# EAGLE library part A4950 (library OfficineRobotiche)
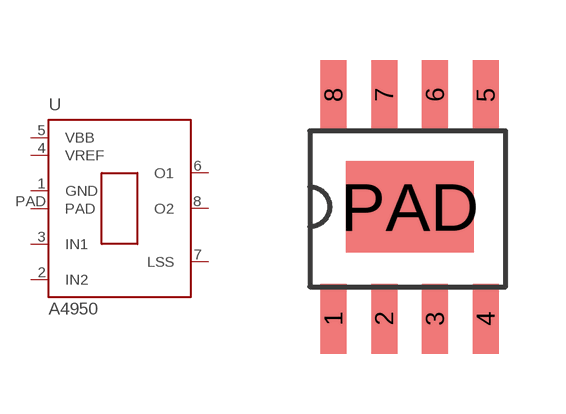
[diagram p3: symbol with the pads of 8SOICN; footprint 8SOICN]

Designator prefix U

## A4950  [8SOICN]
1  GND  pwr
2  IN2  in
3  IN1  in
4  VREF  in
5  VBB  pwr
6  O1  out
7  LSS  out
8  O2  out
PAD  PAD  pwr

## Footprint 8SOICN (pad centres in mm)
smd 0.65 x 1.75: 1 -1.905,-2.8; 2 -0.635,-2.8; 3 0.635,-2.8; 4 1.905,-2.8; 5 1.905,2.8; 6 0.635,2.8; 7 -0.635,2.8; 8 -1.905,2.8
smd 3.2 x 2.3: PAD 0,0